# EAGLE library part TPS22950CQDDCRQ1 (library edrtech_lib)
Power Switch ICs - Power Distribution Automotive 5.5-V, 2.7-A, 34-mO load switch with adjustable current limit Source: Datasheet <https://www.ti.com/lit/ds/symlink/tps22950-q1.pdf?ts=1694525237215&ref_url=https%3A%2F%2Fwww.ti.com%2Fproduct%2FTPS22950-Q1%2Fpart-details%2FTPS22950CQDDCRQ1>
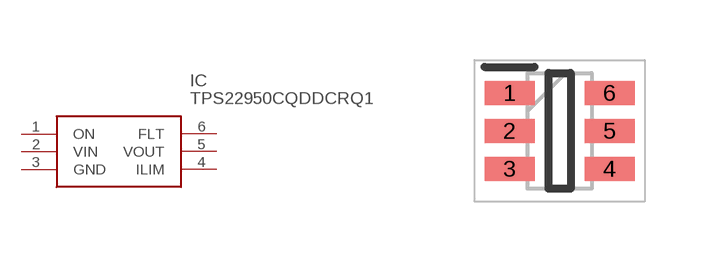
[diagram p57: symbol with the pads of SOT95P280X110-6N; footprint SOT95P280X110-6N]

Designator prefix IC

## TPS22950CQDDCRQ1 (ARROW_PART_NUMBER: TPS22950CQDDCRQ1; ARROW_PRICE-STOCK: null?region=nac; DESCRIPTION: Power Switch ICs - Power Distribution Automotive 5.5-V, 2.7-A, 34-mO load switch with adjustable current limit; HEIGHT: 1.1mm; MANUFACTURER_NAME: Texas Instruments; MANUFACTURER_PART_NUMBER: TPS22950CQDDCRQ1; MOUSER_PART_NUMBER: 595-TPS22950CQDDCRQ1; MOUSER_PRICE-STOCK: https://www.mouser.co.uk/ProductDetail/Texas-Instruments/TPS22950CQDDCRQ1?qs=rQFj71Wb1eUzXvn2C9u1pw%3D%3D)  [SOT95P280X110-6N]
1  ON
2  VIN
3  GND
4  ILIM
5  VOUT
6  FLT

## Footprint SOT95P280X110-6N (pad centres in mm)
6-Pin Thin SOT23
smd 1.25 x 0.6: 1 -1.25,0.95; 2 -1.25,0; 3 -1.25,-0.95; 4 1.25,-0.95; 5 1.25,0; 6 1.25,0.95